# Altium footprint library Motherboard V2.0.PcbLib: 29 footprints (part 2 of 2)
Each footprint in its own frame and in the unit in brackets; x right, y up, seen from the top. Pads: shape width x height; smd on the part's side, far side on the other; paste and mask are expansions set on the pad; w line width, h text height; cw(c..) or ccw(c..) is an arc to the next point about the centre after c.
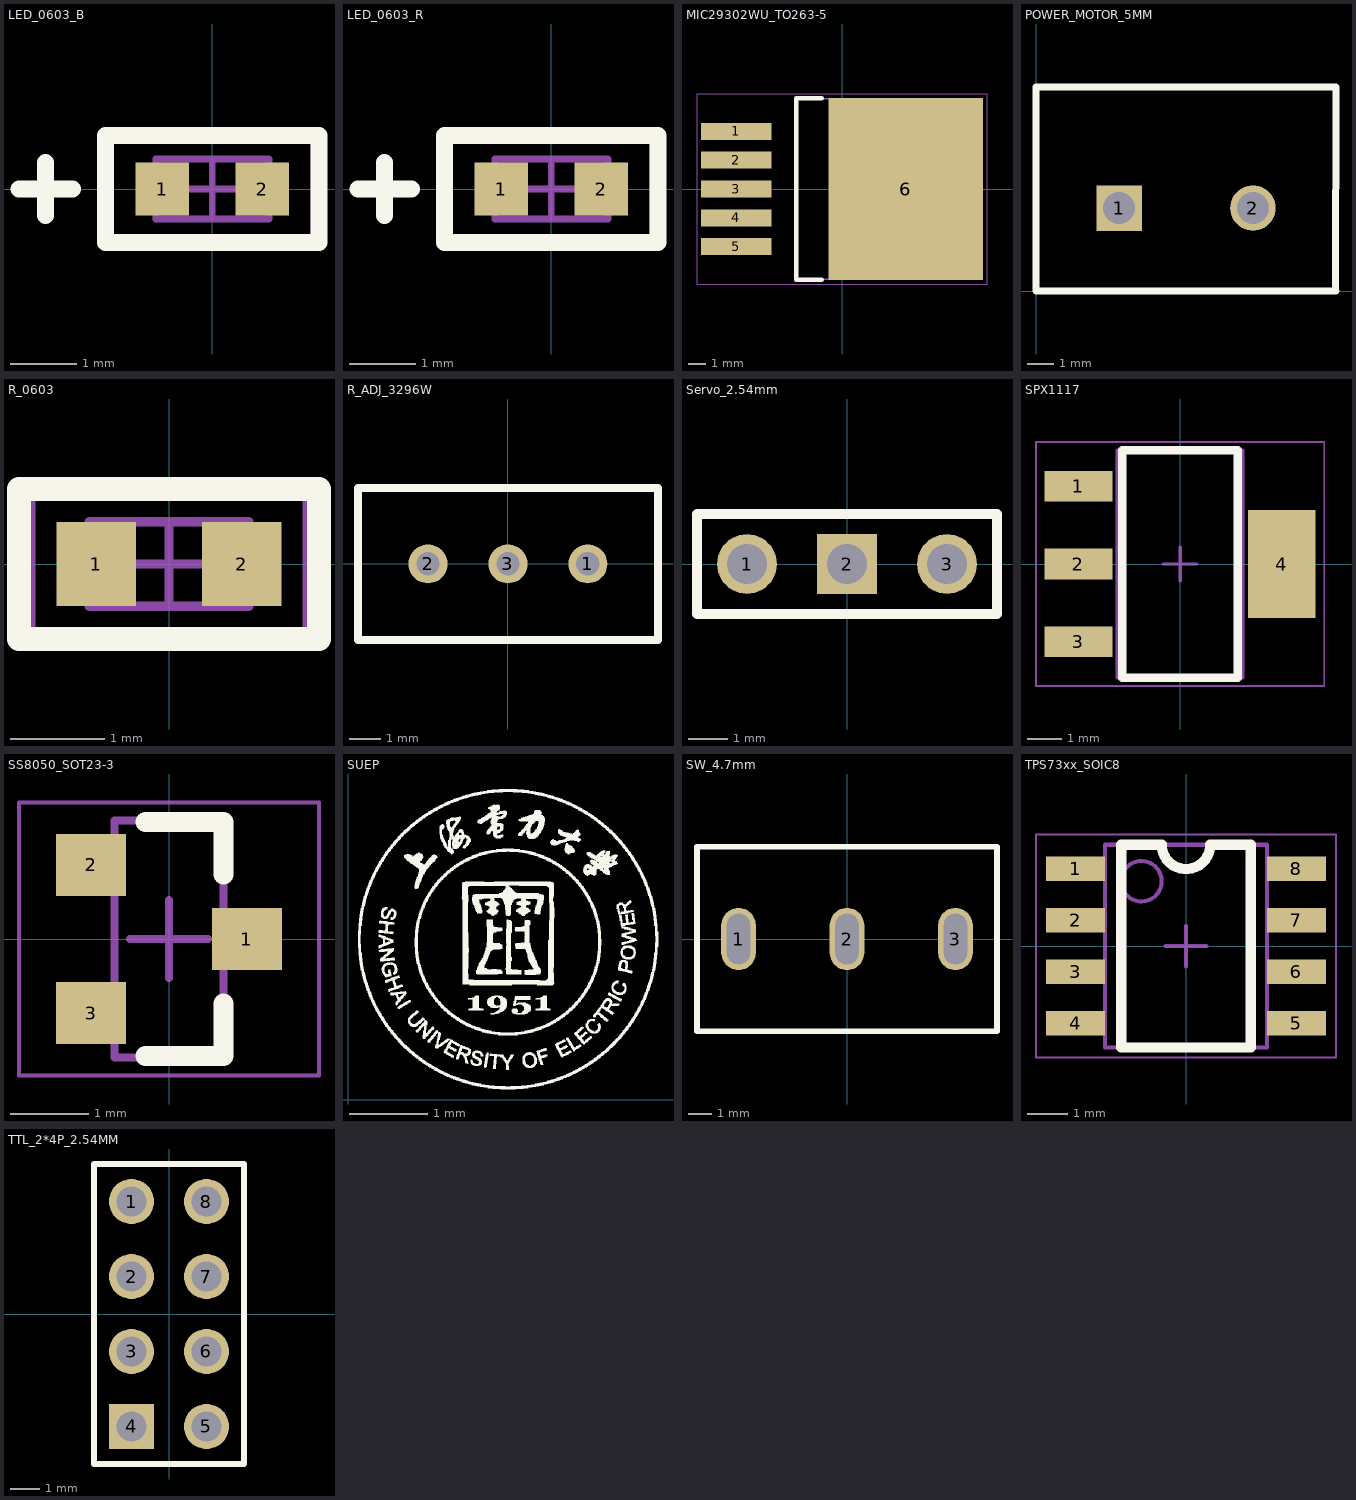
[diagram p1: the footprints below, top view; thin cyan lines are the x and y axes]

## LED_0603_B [mm]
pads (2):
  rect 0.8x0.8 smd: 1(-0.75,0) 2(0.75,0)
Top Overlay:
  lines w0.254: -2.9,0 -2.1,0 ; -2.5,-0.4 -2.5,0.4 ; -1.6,-0.8 1.6,-0.8 1.6,0.8 -1.6,0.8 -1.6,-0.8
Assembly Top:
  lines w0.1: -0.85,-0.45 -0.85,0.45 0.85,0.45 0.85,-0.45 -0.85,-0.45
Courtyard Top:
  lines w0.05: -1.5,-0.7 -1.5,0.7 1.5,0.7 1.5,-0.7 -1.5,-0.7
  lines w0.1: -0.45,0 0.45,0 ; 0,-0.45 0,0.45
3D body "LED_0603_B.STEP": height 0.6, standoff 0, extent -0.8,-0.4 0.8,0.4

## LED_0603_R [mm]
height 0.5
pads (2):
  rect 0.8x0.8 smd: 1(-0.75,0) 2(0.75,0)
Top Overlay:
  lines w0.254: -2.9,0 -2.1,0 ; -2.5,-0.4 -2.5,0.4 ; -1.6,-0.8 1.6,-0.8 1.6,0.8 -1.6,0.8 -1.6,-0.8
Assembly Top:
  lines w0.1: -0.85,-0.45 -0.85,0.45 0.85,0.45 0.85,-0.45 -0.85,-0.45
Courtyard Top:
  lines w0.05: -1.5,-0.7 -1.5,0.7 1.5,0.7 1.5,-0.7 -1.5,-0.7
  lines w0.1: -0.45,0 0.45,0 ; 0,-0.45 0,0.45
3D body "LED_0603_R.STEP": height 0.6, standoff 0, extent -0.8,-0.4 0.8,0.4

## MIC29302WU_TO263-5 [mm]
pads (6):
  rect 4.15x1 smd: 1(-6.25,3.4) 2(-6.25,1.7) 3(-6.25,0) 4(-6.25,-1.7) 5(-6.25,-3.4)
  rect 9.1x10.75 smd: 6(3.75,0)
Top Overlay:
  lines w0.254: -1.2,-5.35 -2.7,-5.35 -2.7,5.35 -1.2,5.35
Assembly Top:
  lines w0.1: -2.7,-5.325 6.47,-5.325 6.47,5.325 -2.7,5.325 -2.7,-5.325
Courtyard Top:
  lines w0.05: -8.55,-5.625 8.55,-5.625 8.55,5.625 -8.55,5.625 -8.55,-5.625
  lines w0.1: -0.5,0 0.5,0 ; 0,-0.5 0,0.5
3D body "DPAK_TO263-5.STEP": height 4.78, standoff -0.02, extent -7.53,-5 8.14,5

## POWER_MOTOR_5MM [mm]
pads (2):
  rect 1.7x1.7 hole 1.2: 1(3.1,3.1)
  round 1.7 hole 1.2: 2(8.1,3.1)
Top Overlay:
  lines w0.254: 0,7.6 0,0 11.2,0 ; 0,7.62 11.2,7.62 ; 11.176,0 11.2,7.6
3D body "PHOENIX CONTACT_2P_5mm_10mm.stp": height 10, standoff -3.5, extent 0.03,-0.975 10.6,7.175

## R_0603 [mm]
pads (2):
  rect 0.85x0.9 smd: 1(-0.775,0) 2(0.775,0)
Top Overlay:
  lines w0.254: -1.6,-0.8 1.6,-0.8 1.6,0.8 -1.6,0.8 -1.6,-0.8
Assembly Top:
  lines w0.1: -0.85,-0.45 0.85,-0.45 0.85,0.45 -0.85,0.45 -0.85,-0.45
Courtyard Top:
  lines w0.05: -1.45,-0.7 1.45,-0.7 1.45,0.7 -1.45,0.7 -1.45,-0.7
  lines w0.1: -0.45,0 0.45,0 ; 0,-0.45 0,0.45
3D body "R_0603.STEP": height 0.4, standoff 0, extent -0.8,-0.4 0.8,0.4

## R_ADJ_3296W [mm]
pads (3):
  round 1.24 hole 0.74: 1(2.54,0) 2(-2.54,0) 3(0,0)
Top Overlay:
  lines w0.254: -4.765,2.41 -4.765,-2.42 4.77,-2.42 4.77,2.412 -4.765,2.412
3D body "BOURNS_3296W.STEP": height 11.55, standoff -7.62, extent -4.765,-2.54 4.765,2.29

## Servo_2.54mm [mm]
pads (3):
  round 1.52 hole 1.02: 1(-2.54,0) 3(2.54,0)
  rect 1.52x1.52 hole 1.02: 2(0,0)
Top Overlay:
  lines w0.254: -3.81,-1.27 -3.81,1.27 3.81,1.27 3.81,-1.27 -3.81,-1.27
3D body "s3.STEP": height 8.54, standoff -3, extent -3.81,-1.245 3.81,1.245

## SPX1117 [mm]
pads (4):
  rect 2x0.9 smd: 1(-3,2.3) 2(-3,0) 3(-3,-2.3)
  rect 2x3.2 smd: 4(3,0)
Top Overlay:
  lines w0.254: -1.7,-3.35 -1.7,3.35 1.7,3.35 1.7,-3.35 -1.7,-3.35
Assembly Top:
  lines w0.1: -1.85,-3.35 -1.85,3.35 1.85,3.35 1.85,-3.35 -1.85,-3.35
Courtyard Top:
  lines w0.05: -4.25,-3.6 -4.25,3.6 4.25,3.6 4.25,-3.6 -4.25,-3.6
  lines w0.1: -0.5,0 0.5,0 ; 0,-0.5 0,0.5
3D body "SOT-223.STEP": height 1.65, standoff -0.03, extent -3.48,-3.25 3.48,3.25

## SS8050_SOT23-3 [mm] "SOT23, 3-Leads, Body 2.92x2.37mm, Pitch 0.95mm, IPC Medium Density"
height 1.22
pads (3):
  rect 0.9x0.8 smd: 1(1,0) 2(-1,0.95) 3(-1,-0.95)
Top Overlay:
  lines w0.254: -0.3,-1.5 0.7,-1.5 0.7,-0.827 ; -0.3,1.5 0.7,1.5 0.7,0.827
Assembly Top:
  lines w0.1: -0.7,-1.52 -0.7,1.52 0.7,1.52 0.7,-1.52 -0.7,-1.52
Courtyard Top:
  lines w0.05: -1.925,-1.75 -1.925,1.75 1.925,1.75 1.925,-1.75 -1.925,-1.75
  lines w0.1: -0.5,0 0.5,0 ; 0,-0.5 0,0.5
3D body "SOT-23-3.STEP": height 1.2, standoff 0, extent -1.4,-1.45 1.4,1.45

## SUEP [mm]
Top Overlay:
  drawing of 4320 lines, arcs and shapes, not listed

## SW_4.7mm [mm]
pads (3):
  oval 1.5x2.7 hole 1 slot 2.2 at 90 deg: 1(-4.7,0) 2(0,0) 3(4.7,0)
Top Overlay:
  lines w0.254: -6.5,-4 -6.5,4 6.5,4 6.5,-4 -6.5,-4
3D body: height 0.45, standoff 0, extent 5.08,2.54 5.08,2.54
3D body "SW-SPDT1.STEP": height 27.89, standoff -3.17, extent -6.35,-5.969 6.35,5.969

## TPS73xx_SOIC8 [mm]
pads (8):
  rect 1.45x0.6 smd: 1(-2.725,1.905) 2(-2.725,0.635) 3(-2.725,-0.635) 4(-2.725,-1.905) 5(2.725,-1.905) 6(2.725,-0.635) 7(2.725,0.635) 8(2.725,1.905)
Top Overlay:
  lines w0.254: -1.6,-2.5 1.6,-2.5 1.6,2.5 0.6,2.5 cw(c0,2.5) -0.6,2.5 -1.6,2.5 -1.6,-2.5
Assembly Top:
  circle w0.1: c-1.1,1.6 r0.5
  lines w0.1: -2,-2.5 2,-2.5 2,2.5 -2,2.5 -2,-2.5
Courtyard Top:
  lines w0.05: -3.7,-2.75 3.7,-2.75 3.7,2.75 -3.7,2.75 -3.7,-2.75
  lines w0.1: -0.5,0 0.5,0 ; 0,-0.5 0,0.5
3D body "TI_TPS73xx_SOCI-8.stp": height 1.63, standoff 0, extent -3.011,-2.451 3.011,2.451

## TTL_2*4P_2.54MM [mm]
pads (8):
  round 1.52 hole 1.02: 1(-1.27,3.81) 2(-1.27,1.27) 3(-1.27,-1.27) 5(1.27,-3.81) 6(1.27,-1.27) 7(1.27,1.27) 8(1.27,3.81)
  rect 1.52x1.52 hole 1.02: 4(-1.27,-3.81)
Top Overlay:
  lines w0.203: -2.54,-5.08 -1.27,-5.08 1.27,-5.08 2.54,-5.08 2.54,5.08 -2.54,5.08 -2.54,-5.08
3D body "s4.STEP": height 8.4, standoff -3.15, extent 0.04,-5.08 2.54,5.08
3D body "s4.STEP": height 8.4, standoff -3.15, extent -2.5,-5.08 0,5.08